# Altium schematic symbol library CAPV.SCHLIB: 1 symbol
Pins are listed as number, name and electrical type; pins without a type are passive.

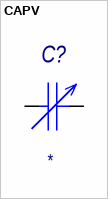
[diagram p0: symbol CAPV]

## CAPV
designator C?
Value: *
pins: 1, 2